# EAGLE library part MCP794* (library bschulz)
MCP794xx - Battery Backed I2C Real Time Clock (RTC) with SRAM (EEPROM*) and Protected EERPOM Characteristics: VCC: 1.8~5.5V VBat: 1.3~5.5V IQ: 1.2μA @ 3.3V Vcc, 925nA @ 3.0V VBat Memory: 64B, 64B Protected EEPROM, 1kB EEPROM* Interface: I2C Operating Temperature: -40°C to 85°C *Only on MCP7941x models Digikey: MCP79411, SOIC (MCP79411T-I/SNCT-ND) <https://www.digikey.com/en/products/detail/microchip-technology/MCP79411T-I-SN/2533083> MCP79412, SOIC (MCP79412-I/SN-ND) <https://www.digikey.com/en/products/detail/microchip-technology/MCP79412-I-SN/2712450> Pin Compatible Alternatives <https://www.digikey.com/products/en/integrated-circuits-ics/clock-timing-real-time-clocks/690?FV=401994%2C26802e4%2C45003ef%2C450041e%2C4500072%2C450050c%2C4500565%2C450057c%2C450057e%2C4500010%2C4500011%2C4500017%2C450017d%2C4500180%2C450004f%2C1f140000%2Cffe002b2%2C16980015%2C1698001a%2C1698001d%2C16980026%2C16980027%2C16980029%2C16980036%2C16980009&quantity=10&ColumnSort=1000011&page=2&stock=1&nstock=1&pageSize=25> Note: These are recomendations at the time, always verify pin compatability using combination of Mrk1 EyeBall and quality datasheet
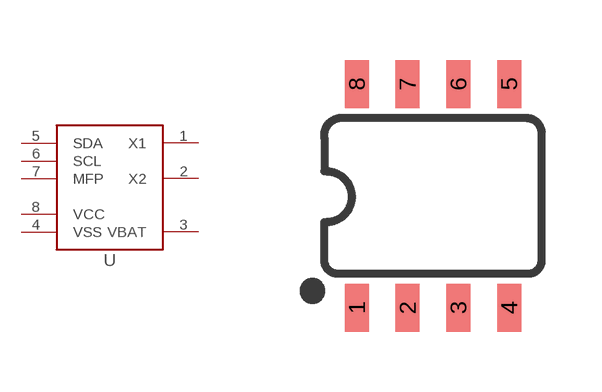
[diagram p145: symbol with the pads of SO08; footprint SO08]

Designator prefix U

## MCP794SOIC (DISP: MCP794xx; MF: Microchip), MCP79400SOIC (DISP: MCP79400; MF: Microchip), MCP79401SOIC (DISP: MCP79401; MF: Microchip), MCP79402SOIC (DISP: MCP79402; MF: Microchip), MCP79410SOIC (DISP: MCP79410; MF: Microchip), MCP79411SOIC (DIGIKEY: MCP79411T-I/SNCT-ND; DISP: MCP79411; MF: Microchip; MPN: MCP79411T-I/SN), MCP79412SOIC (DIGIKEY: MCP79412-I/SN-ND; DISP: MCP79412; MF: Microchip; MPN: MCP79412-I/SN)  [SO08]
1  X1  pas
2  X2  pas
3  VBAT  pwr
4  VSS  pwr
5  SDA
6  SCL  in
7  MFP
8  VCC  pwr

## Footprint SO08 (pad centres in mm)
SOIC, 0.15 inch width
smd 0.6 x 1.2: 1 -1.905,-2.8; 2 -0.635,-2.8; 3 0.635,-2.8; 4 1.905,-2.8; 5 1.905,2.8; 6 0.635,2.8; 7 -0.635,2.8; 8 -1.905,2.8